# Altium footprint library zenor.PcbLib: 1 footprints
Each footprint in its own frame and in the unit in brackets; x right, y up, seen from the top. Pads: shape width x height; smd on the part's side, far side on the other; paste and mask are expansions set on the pad; w line width, h text height; cw(c..) or ccw(c..) is an arc to the next point about the centre after c.
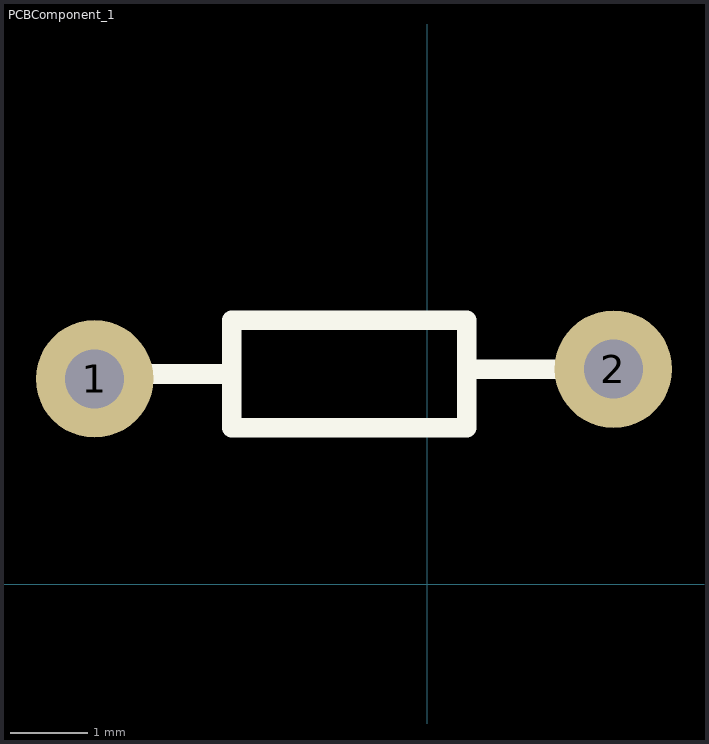
[diagram p0: the footprint, top view; thin cyan lines are the x and y axes]

## PCBComponent_1 [mil]
pads (2):
  round 60 hole 30: 1(-170,105) 2(95,110)
Top Overlay:
  lines w10: -170,105 -167.5,107.5 -100,107.5 ; 20,107.5 22.5,110 95,110 ; -100,80 20,80 20,135 -100,135 -100,80